# Altium footprint library Connectors.PcbLib: 27 footprints (part 1 of 2)
Each footprint in its own frame and in the unit in brackets; x right, y up, seen from the top. Pads: shape width x height; smd on the part's side, far side on the other; paste and mask are expansions set on the pad; w line width, h text height; cw(c..) or ccw(c..) is an arc to the next point about the centre after c.
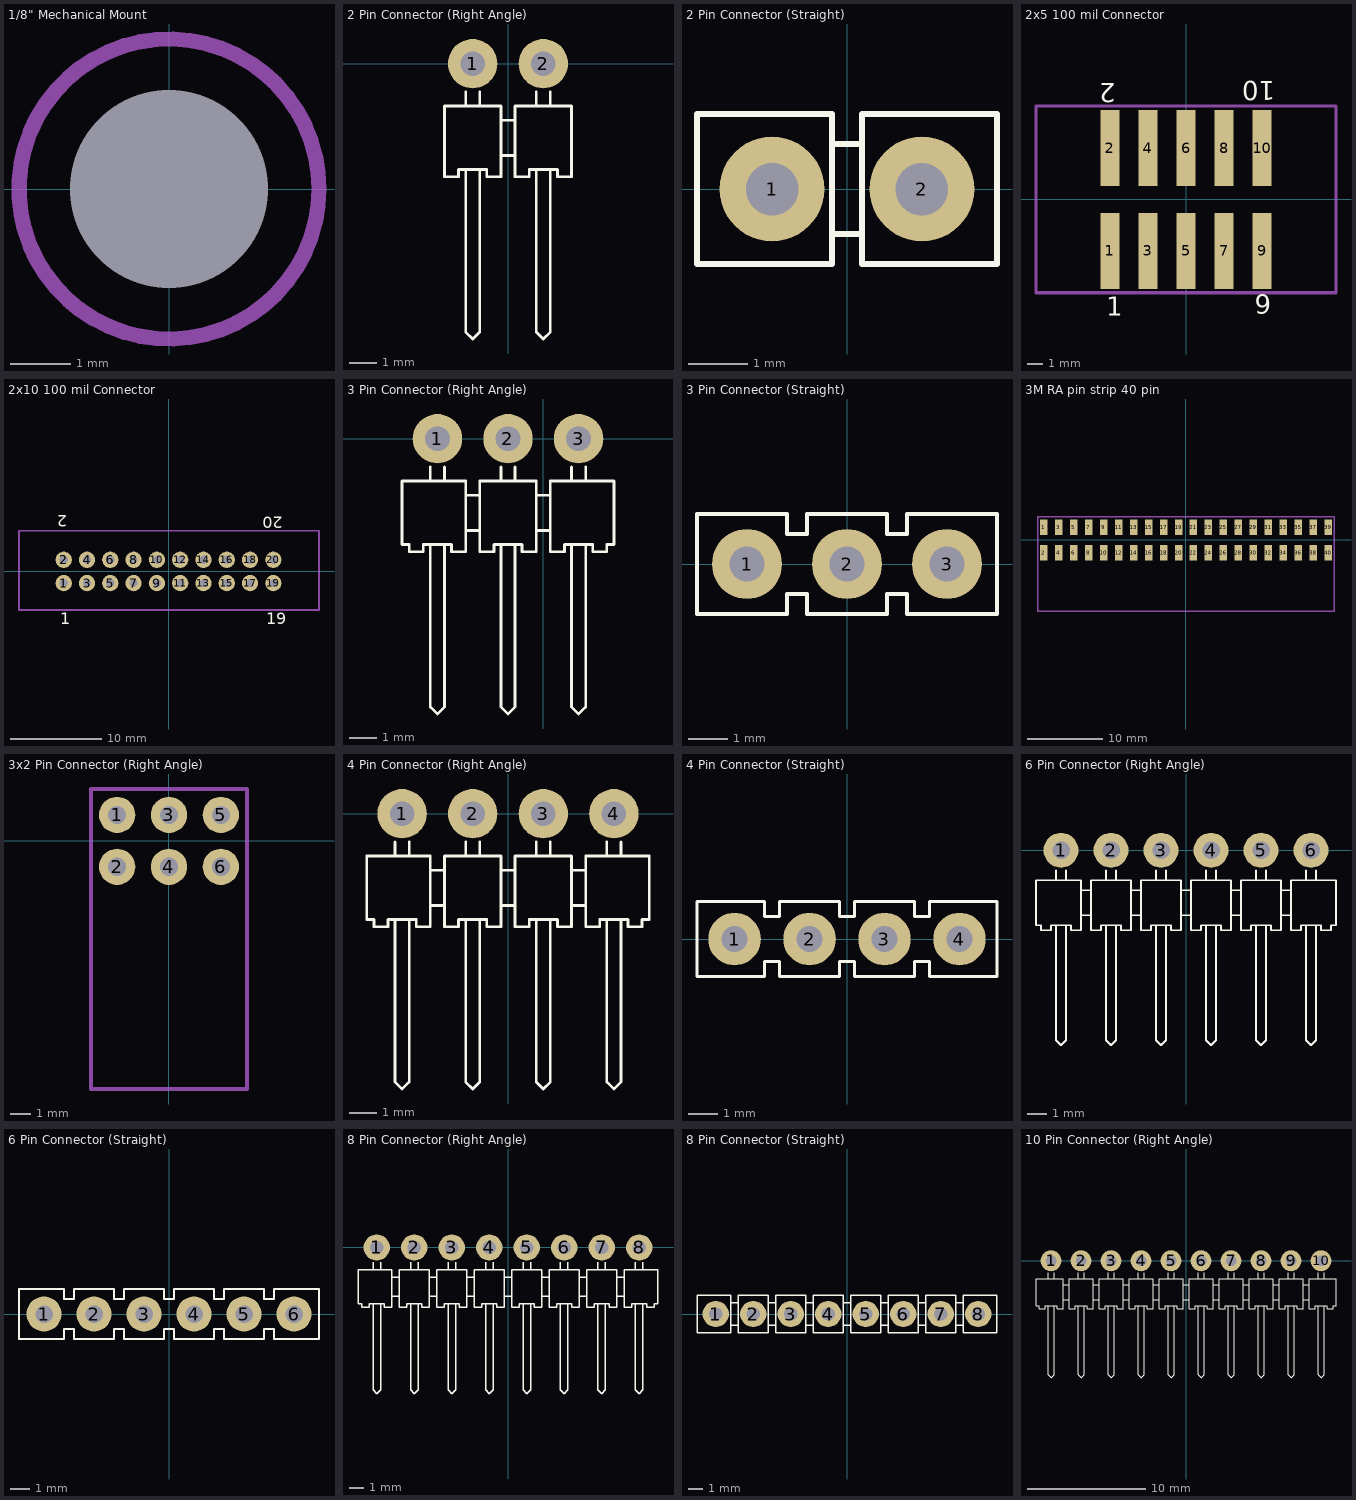
[diagram p0: the footprints below, top view; thin cyan lines are the x and y axes]

## 1/8" Mechanical Mount [mil] "1/8\" Hole for Mechanical Mount"
height 354.33
pads (1):
  round 0 hole 130 unplated mask+59.06: 0(0,0)
Mechanical 13:
  circle w10: c0,0 r98.43
3D body: height 236.22, standoff 0, extent -97.64,-98.22 98.44,98.24

## 2 Pin Connector (Right Angle) [mil] "2 Pin Connector with 0.1'' Pitch"
height 100
pads (2):
  round 70 hole 35: 1(-50,0) 2(50,0)
Top Overlay:
  lines w1.97: -60,-150 -40,-150 ; 40,-150 60,-150
  lines w3.94: -60,-150 -60,-380 -50,-390 -40,-380 -40,-150 ; -60,-60 -60,-40 ; -40,-60 -40,-40 ; -10,-130 10,-130 ; -10,-80 10,-80 ; 40,-150 40,-380 50,-390 60,-380 60,-150 ; 40,-60 40,-40 ; 60,-60 60,-40 ; -90,-160 -70,-160 -70,-150 -30,-150 -30,-160 -10,-160 -10,-60 -90,-60 -90,-160 ; 10,-160 30,-160 30,-150 70,-150 70,-160 90,-160 90,-60 10,-60 10,-160
3D body: height 100, standoff 0, extent 10.02,-159.98 89.98,-60.02
3D body: height 100, standoff 0, extent -89.98,-159.98 -10.02,-60.02
3D body: height 70, standoff 15, extent -9.98,-129.98 9.98,-80.02
3D body: height 75, standoff 50, extent 40,-390 60,10
3D body: height 75, standoff 50, extent -60,-390 -40,10
3D body: height 75, standoff 0, extent -60,-10 -40,10
3D body: height 75, standoff 0, extent 40,-10 60,10

## 2 Pin Connector (Straight) [mil] "2 Pin,  0.1\" pitch, Through Hole (Straight)"
height 330
pads (2):
  round 70 hole 35: 1(-50,0) 2(50,0)
Top Overlay:
  lines w3.94: -90,-50 -10,-50 ; -90,50 -10,50 ; -10,-30 10,-30 ; -10,30 10,30 ; 90,-50 10,-50 ; 90,50 10,50 ; -10,-50 -100,-50 -100,50 -10,50 ; -10,-50 -10,50 ; 10,-50 10,50 ; 10,-50 100,-50 100,50 10,50
3D body: height 100, standoff 0, extent -99.98,-49.98 -10.02,49.98
3D body: height 430, standoff -100, extent -60,-10 -40,10
3D body: height 70, standoff 0, extent -9.98,-29.98 9.98,29.98
3D body: height 430, standoff -100, extent 40,-10 60,10
3D body: height 100, standoff 0, extent 10.02,-49.98 99.98,49.98

## 2x5 100 mil Connector [mil] "10 Pin,  0.1\" pitch, Straight SMA"
height 0.39
pads (10):
  rect 50x200 smd: 1(-200,-135) 2(-200,135) 3(-100,-135) 4(-100,135) 5(0,-135) 6(0,135) 7(100,-135) 8(100,135) 9(200,-135) 10(200,135)
Top Overlay:
  text "10" at 235,310 h50
  text "2" at -185,305 h50
  text "9" at 180,-300 h50
  text "1" at -210,-305 h50
Mechanical 13:
  lines w8: -394,-245 -394,245 394,245 394,-245 -394,-245

## 2x10 100 mil Connector [mil] "20 Pin,  0.1\" pitch, Through Hole (Straight)"
height 0.39
pads (20):
  round 70 hole 35: 1(-450,-50) 2(-450,50) 3(-350,-50) 4(-350,50) 5(-250,-50) 6(-250,50) 7(-150,-50) 8(-150,50) 9(-50,-50) 10(-50,50) 11(50,-50) 12(50,50) 13(150,-50) 14(150,50) 15(250,-50) 16(250,50) 17(350,-50) 18(350,50) 19(450,-50) 20(450,50)
Top Overlay:
  text "1" at -463.87,-226.45 h50
  text "19" at 420,-227 h50
  text "2" at -434,241 h50
  text "20" at 490,235 h50
Mechanical 13:
  lines w8: -642,-165 646,-165 646,175 -642,175 -642,-165
3D body: height 380, standoff -110, extent -260,40 -240,60
3D body: height 380, standoff -110, extent -160,40 -140,60
3D body: height 380, standoff -110, extent 140,40 160,60
3D body: height 380, standoff -110, extent 240,40 260,60
3D body: height 380, standoff -110, extent 240,-60 260,-40
3D body: height 380, standoff -110, extent 140,-60 160,-40
3D body: height 380, standoff -110, extent -160,-60 -140,-40
3D body: height 380, standoff -110, extent -260,-60 -240,-40
3D body: height 395, standoff -107, extent -642,-165 646,175

## 3 Pin Connector (Right Angle) [mil] "3 Pin Connector with 0.1'' Pitch"
height 100
pads (3):
  round 70 hole 35: 1(-150,0) 2(-50,0) 3(50,0)
Top Overlay:
  lines w1.97: -160,-150 -140,-150 ; -60,-150 -40,-150 ; 40,-150 60,-150
  lines w3.94: -160,-150 -160,-380 -150,-390 -140,-380 -140,-150 ; -160,-60 -160,-40 ; -140,-60 -140,-40 ; -110,-130 -90,-130 ; -110,-80 -90,-80 ; -60,-150 -60,-380 -50,-390 -40,-380 -40,-150 ; -60,-60 -60,-40 ; -40,-60 -40,-40 ; -10,-130 10,-130 ; -10,-80 10,-80 ; 40,-150 40,-380 50,-390 60,-380 60,-150 ; 40,-60 40,-40 ; 60,-60 60,-40 ; -200,-150 -200,-60 -110,-60 -110,-160 -130,-160 -130,-150 -170,-150 -170,-160 -190,-160 -190,-150 -200,-150 ; -90,-160 -90,-60 -10,-60 -10,-160 -30,-160 -30,-150 -70,-150 -70,-160 -90,-160 ; 10,-160 10,-60 100,-60 100,-150 90,-150 90,-160 70,-160 70,-150 30,-150 30,-160 10,-160
3D body: height 75, standoff 0, extent 40,-10 60,10
3D body: height 75, standoff 0, extent -60,-10 -40,10
3D body: height 75, standoff 0, extent -160,-10 -140,10
3D body: height 75, standoff 50, extent -160,-390 -140,10
3D body: height 75, standoff 50, extent -60,-390 -40,10
3D body: height 75, standoff 50, extent 40,-390 60,10
3D body: height 70, standoff 15, extent -9.98,-129.98 9.98,-80.02
3D body: height 70, standoff 15, extent -109.98,-129.98 -90.02,-80.02
3D body: height 100, standoff 0, extent -199.98,-159.98 -110.02,-60.02
3D body: height 100, standoff 0, extent -89.98,-159.98 -10.02,-60.02
3D body: height 100, standoff 0, extent 10.02,-159.98 99.98,-60.02

## 3 Pin Connector (Straight) [mil] "3 Pin,  0.1\" pitch, Through Hole (Straight)"
height 330
pads (3):
  round 70 hole 35: 1(-100,0) 2(0,0) 3(100,0)
Top Overlay:
  lines w3.94: -140,-50 -60,-50 -150,-50 -150,50 -60,50 -140,50 ; -60,-30 -40,-30 ; -60,30 -40,30 ; -40,-50 40,-50 ; -40,50 40,50 ; 40,-30 60,-30 ; 40,30 60,30 ; 140,-50 60,-50 150,-50 150,50 60,50 140,50
  lines w4: -60,-50 -60,-30 ; -60,30 -60,50 ; -40,-50 -40,-30 ; -40,30 -40,50 ; 40,-50 40,-30 ; 40,30 40,50 ; 60,-50 60,-30 ; 60,30 60,50
3D body: height 430, standoff -100, extent 90,-10 110,10
3D body: height 100, standoff 0, extent 60.02,-49.98 149.98,49.98
3D body: height 100, standoff 0, extent -149.98,-49.98 -60.02,49.98
3D body: height 430, standoff -100, extent -110,-10 -90,10
3D body: height 430, standoff -100, extent -10,-10 10,10
3D body: height 70, standoff 0, extent 40.02,-29.98 59.98,29.98
3D body: height 70, standoff 0, extent -59.98,-29.98 -40.02,29.98
3D body: height 100, standoff 0, extent -39.98,-49.98 39.98,49.98

## 3M RA pin strip 40 pin [mm] "Breakaway header, SM 40 circuits"
height 5
pads (40):
  rect 1x2.03 smd: 1(-19,1.675) 2(-19,-1.725) 3(-17,1.675) 4(-17,-1.725) 5(-15,1.675) 6(-15,-1.725) 7(-13,1.675) 8(-13,-1.725) 9(-11,1.675) 10(-11,-1.725) 11(-9,1.675) 12(-9,-1.725) 13(-7,1.675) 14(-7,-1.725) 15(-5,1.675) 16(-5,-1.725) 17(-3,1.675) 18(-3,-1.725) 19(-1,1.675) 20(-1,-1.725) 21(1,1.675) 22(1,-1.725) 23(3,1.675) 24(3,-1.725) 25(5,1.675) 26(5,-1.725) 27(7,1.675) 28(7,-1.725) 29(9,1.675) 30(9,-1.725) 31(11,1.675) 32(11,-1.725) 33(13,1.675) 34(13,-1.725) 35(15,1.675) 36(15,-1.725) 37(17,1.675) 38(17,-1.725) 39(19,1.675) 40(19,-1.725)
Mechanical 13:
  lines w0.203: 7.112,-9.498 9.398,-9.498 ; 9.398,-9.498 -19.812,-9.498 -19.812,-2.54 -19.812,3.048 19.812,3.048 19.812,-3.048 19.812,-9.488 19.802,-9.498 9.398,-9.498
3D body: height 2.54, standoff 0, extent 18.3,-5.448 19.7,-2.848
3D body: height 1.91, standoff 1.27, extent 18.746,-9.448 19.254,-1.094
3D body: height 1.91, standoff 0, extent 18.746,-1.602 19.254,-1.094
3D body: height 2.54, standoff 0, extent 16.3,-5.448 17.7,-2.848
3D body: height 1.91, standoff 1.27, extent 16.746,-9.448 17.254,-1.094
3D body: height 1.91, standoff 0, extent 16.746,-1.602 17.254,-1.094
3D body: height 1.78, standoff 0.38, extent 17.712,-4.572 18.22,-3.302
3D body: height 2.54, standoff 0, extent 14.3,-5.448 15.7,-2.848
3D body: height 1.91, standoff 1.27, extent 14.746,-9.448 15.254,-1.094
3D body: height 1.91, standoff 0, extent 14.746,-1.602 15.254,-1.094
3D body: height 1.78, standoff 0.38, extent 15.712,-4.572 16.22,-3.302
3D body: height 2.54, standoff 0, extent 12.3,-5.448 13.7,-2.848
3D body: height 1.91, standoff 1.27, extent 12.746,-9.448 13.254,-1.094
3D body: height 1.91, standoff 0, extent 12.746,-1.602 13.254,-1.094
3D body: height 1.78, standoff 0.38, extent 13.712,-4.572 14.22,-3.302
3D body: height 2.54, standoff 0, extent 10.3,-5.448 11.7,-2.848
3D body: height 1.91, standoff 1.27, extent 10.746,-9.448 11.254,-1.094
3D body: height 1.91, standoff 0, extent 10.746,-1.602 11.254,-1.094
3D body: height 1.78, standoff 0.38, extent 11.712,-4.572 12.22,-3.302
3D body: height 2.54, standoff 0, extent 8.3,-5.448 9.7,-2.848
3D body: height 1.91, standoff 1.27, extent 8.746,-9.448 9.254,-1.094
3D body: height 1.91, standoff 0, extent 8.746,-1.602 9.254,-1.094
3D body: height 1.78, standoff 0.38, extent 9.712,-4.572 10.22,-3.302
3D body: height 2.54, standoff 0, extent 6.3,-5.448 7.7,-2.848
3D body: height 1.91, standoff 1.27, extent 6.746,-9.448 7.254,-1.094
3D body: height 1.91, standoff 0, extent 6.746,-1.602 7.254,-1.094
3D body: height 1.78, standoff 0.38, extent 7.712,-4.572 8.22,-3.302
3D body: height 2.54, standoff 0, extent 4.3,-5.448 5.7,-2.848
3D body: height 1.91, standoff 1.27, extent 4.746,-9.448 5.254,-1.094
3D body: height 1.91, standoff 0, extent 4.746,-1.602 5.254,-1.094
3D body: height 1.78, standoff 0.38, extent 5.712,-4.572 6.22,-3.302
3D body: height 2.54, standoff 0, extent 2.3,-5.448 3.7,-2.848
3D body: height 1.91, standoff 1.27, extent 2.746,-9.448 3.254,-1.094
3D body: height 1.91, standoff 0, extent 2.746,-1.602 3.254,-1.094
3D body: height 1.78, standoff 0.38, extent 3.712,-4.572 4.22,-3.302
3D body: height 2.54, standoff 0, extent 0.3,-5.448 1.7,-2.848
3D body: height 1.91, standoff 1.27, extent 0.746,-9.448 1.254,-1.094
3D body: height 1.91, standoff 0, extent 0.746,-1.602 1.254,-1.094
3D body: height 1.78, standoff 0.38, extent 1.712,-4.572 2.22,-3.302
3D body: height 2.54, standoff 0, extent -1.7,-5.448 -0.3,-2.848
3D body: height 1.91, standoff 1.27, extent -1.254,-9.448 -0.746,-1.094
3D body: height 1.91, standoff 0, extent -1.254,-1.602 -0.746,-1.094
3D body: height 1.78, standoff 0.38, extent -0.288,-4.572 0.22,-3.302
3D body: height 2.54, standoff 0, extent -3.7,-5.448 -2.3,-2.848
3D body: height 1.91, standoff 1.27, extent -3.254,-9.448 -2.746,-1.094
3D body: height 1.91, standoff 0, extent -3.254,-1.602 -2.746,-1.094
3D body: height 1.78, standoff 0.38, extent -2.288,-4.572 -1.78,-3.302
3D body: height 2.54, standoff 0, extent -5.7,-5.448 -4.3,-2.848
3D body: height 1.91, standoff 1.27, extent -5.254,-9.448 -4.746,-1.094
3D body: height 1.91, standoff 0, extent -5.254,-1.602 -4.746,-1.094
3D body: height 1.78, standoff 0.38, extent -4.288,-4.572 -3.78,-3.302
3D body: height 2.54, standoff 0, extent -7.7,-5.448 -6.3,-2.848
3D body: height 1.91, standoff 1.27, extent -7.254,-9.448 -6.746,-1.094
3D body: height 1.91, standoff 0, extent -7.254,-1.602 -6.746,-1.094
3D body: height 1.78, standoff 0.38, extent -6.288,-4.572 -5.78,-3.302
3D body: height 2.54, standoff 0, extent -9.7,-5.448 -8.3,-2.848
3D body: height 1.91, standoff 1.27, extent -9.254,-9.448 -8.746,-1.094
3D body: height 1.91, standoff 0, extent -9.254,-1.602 -8.746,-1.094
3D body: height 1.78, standoff 0.38, extent -8.288,-4.572 -7.78,-3.302
3D body: height 2.54, standoff 0, extent -11.7,-5.448 -10.3,-2.848
3D body: height 1.91, standoff 1.27, extent -11.254,-9.448 -10.746,-1.094
3D body: height 1.91, standoff 0, extent -11.254,-1.602 -10.746,-1.094
3D body: height 1.78, standoff 0.38, extent -10.288,-4.572 -9.78,-3.302
3D body: height 2.54, standoff 0, extent -13.7,-5.448 -12.3,-2.848
3D body: height 1.91, standoff 1.27, extent -13.254,-9.448 -12.746,-1.094
3D body: height 1.91, standoff 0, extent -13.254,-1.602 -12.746,-1.094
3D body: height 1.78, standoff 0.38, extent -12.288,-4.572 -11.78,-3.302
3D body: height 2.54, standoff 0, extent -15.7,-5.448 -14.3,-2.848
3D body: height 1.91, standoff 1.27, extent -15.254,-9.448 -14.746,-1.094
3D body: height 1.91, standoff 0, extent -15.254,-1.602 -14.746,-1.094
3D body: height 1.78, standoff 0.38, extent -14.288,-4.572 -13.78,-3.302
3D body: height 2.54, standoff 0, extent -17.7,-5.448 -16.3,-2.848
3D body: height 1.91, standoff 1.27, extent -17.254,-9.448 -16.746,-1.094
3D body: height 1.91, standoff 0, extent -17.254,-1.602 -16.746,-1.094
3D body: height 1.78, standoff 0.38, extent -16.288,-4.572 -15.78,-3.302
3D body: height 2.54, standoff 0, extent -19.7,-5.448 -18.3,-2.848
3D body: height 1.91, standoff 1.27, extent -19.254,-9.448 -18.746,-1.094
3D body: height 1.91, standoff 0, extent -17.254,-1.602 -16.746,-1.094
3D body: height 1.78, standoff 0.38, extent -18.288,-4.572 -17.78,-3.302
3D body: height 1.91, standoff 0, extent -19.254,-1.602 -18.746,-1.094
3D body: height 4.32, standoff 2.92, extent -18.288,-4.505 -17.78,-3.235
3D body: height 5.08, standoff 2.54, extent -19.7,-5.381 -18.3,-2.781
3D body: height 4.44, standoff 0, extent -19.254,0.745 -18.746,1.253
3D body: height 4.44, standoff 3.81, extent -19.254,-9.381 -18.746,1.253
3D body: height 4.32, standoff 2.92, extent -16.288,-4.505 -15.78,-3.235
3D body: height 4.44, standoff 0, extent -17.254,0.745 -16.746,1.253
3D body: height 4.44, standoff 3.81, extent -17.254,-9.381 -16.746,1.253
3D body: height 5.08, standoff 2.54, extent -17.7,-5.381 -16.3,-2.781
3D body: height 4.32, standoff 2.92, extent -16.288,-4.505 -15.78,-3.235
3D body: height 4.32, standoff 2.92, extent -14.288,-4.505 -13.78,-3.235
3D body: height 4.44, standoff 0, extent -15.254,0.745 -14.746,1.253
3D body: height 4.44, standoff 3.81, extent -15.254,-9.381 -14.746,1.253
3D body: height 5.08, standoff 2.54, extent -15.7,-5.381 -14.3,-2.781
3D body: height 4.32, standoff 2.92, extent -14.288,-4.505 -13.78,-3.235
3D body: height 4.32, standoff 2.92, extent -12.288,-4.505 -11.78,-3.235
3D body: height 4.44, standoff 0, extent -13.254,0.745 -12.746,1.253
3D body: height 4.44, standoff 3.81, extent -13.254,-9.381 -12.746,1.253
3D body: height 5.08, standoff 2.54, extent -13.7,-5.381 -12.3,-2.781
3D body: height 4.32, standoff 2.92, extent -12.288,-4.505 -11.78,-3.235
3D body: height 4.32, standoff 2.92, extent -10.288,-4.505 -9.78,-3.235
3D body: height 4.44, standoff 0, extent -11.254,0.745 -10.746,1.253
3D body: height 4.44, standoff 3.81, extent -11.254,-9.381 -10.746,1.253
3D body: height 5.08, standoff 2.54, extent -11.7,-5.381 -10.3,-2.781
3D body: height 4.32, standoff 2.92, extent -10.288,-4.505 -9.78,-3.235
3D body: height 4.32, standoff 2.92, extent -8.288,-4.505 -7.78,-3.235
3D body: height 4.44, standoff 0, extent -9.254,0.745 -8.746,1.253
3D body: height 4.44, standoff 3.81, extent -9.254,-9.381 -8.746,1.253
3D body: height 5.08, standoff 2.54, extent -9.7,-5.381 -8.3,-2.781
3D body: height 4.32, standoff 2.92, extent -8.288,-4.505 -7.78,-3.235
3D body: height 4.32, standoff 2.92, extent -6.288,-4.505 -5.78,-3.235
3D body: height 4.44, standoff 0, extent -7.254,0.745 -6.746,1.253
3D body: height 4.44, standoff 3.81, extent -7.254,-9.381 -6.746,1.253
3D body: height 5.08, standoff 2.54, extent -7.7,-5.381 -6.3,-2.781
3D body: height 4.32, standoff 2.92, extent -6.288,-4.505 -5.78,-3.235
3D body: height 4.32, standoff 2.92, extent -4.288,-4.505 -3.78,-3.235
3D body: height 4.44, standoff 0, extent -5.254,0.745 -4.746,1.253
3D body: height 4.44, standoff 3.81, extent -5.254,-9.381 -4.746,1.253
3D body: height 5.08, standoff 2.54, extent -5.7,-5.381 -4.3,-2.781
3D body: height 4.32, standoff 2.92, extent -4.288,-4.505 -3.78,-3.235
3D body: height 4.32, standoff 2.92, extent -2.288,-4.505 -1.78,-3.235
3D body: height 4.44, standoff 0, extent -3.254,0.745 -2.746,1.253
3D body: height 4.44, standoff 3.81, extent -3.254,-9.381 -2.746,1.253
3D body: height 5.08, standoff 2.54, extent -3.7,-5.381 -2.3,-2.781
3D body: height 4.32, standoff 2.92, extent -2.288,-4.505 -1.78,-3.235
3D body: height 4.32, standoff 2.92, extent -0.288,-4.505 0.22,-3.235
3D body: height 4.44, standoff 0, extent -1.254,0.745 -0.746,1.253
3D body: height 4.44, standoff 3.81, extent -1.254,-9.381 -0.746,1.253
3D body: height 5.08, standoff 2.54, extent -1.7,-5.381 -0.3,-2.781
3D body: height 4.32, standoff 2.92, extent -0.288,-4.505 0.22,-3.235
3D body: height 4.32, standoff 2.92, extent 1.712,-4.505 2.22,-3.235
3D body: height 4.44, standoff 0, extent 0.746,0.745 1.254,1.253
3D body: height 4.44, standoff 3.81, extent 0.746,-9.381 1.254,1.253
3D body: height 5.08, standoff 2.54, extent 0.3,-5.381 1.7,-2.781
3D body: height 4.32, standoff 2.92, extent 1.712,-4.505 2.22,-3.235
3D body: height 4.32, standoff 2.92, extent 3.712,-4.505 4.22,-3.235
3D body: height 4.44, standoff 0, extent 2.746,0.745 3.254,1.253
3D body: height 4.44, standoff 3.81, extent 2.746,-9.381 3.254,1.253
3D body: height 5.08, standoff 2.54, extent 2.3,-5.381 3.7,-2.781
3D body: height 4.32, standoff 2.92, extent 3.712,-4.505 4.22,-3.235
3D body: height 4.32, standoff 2.92, extent 5.712,-4.505 6.22,-3.235
3D body: height 4.44, standoff 0, extent 4.746,0.745 5.254,1.253
3D body: height 4.44, standoff 3.81, extent 4.746,-9.381 5.254,1.253
3D body: height 5.08, standoff 2.54, extent 4.3,-5.381 5.7,-2.781
3D body: height 4.32, standoff 2.92, extent 5.712,-4.505 6.22,-3.235
3D body: height 4.32, standoff 2.92, extent 7.712,-4.505 8.22,-3.235
3D body: height 4.44, standoff 0, extent 6.746,0.745 7.254,1.253
3D body: height 4.44, standoff 3.81, extent 6.746,-9.381 7.254,1.253
3D body: height 5.08, standoff 2.54, extent 6.3,-5.381 7.7,-2.781
3D body: height 4.32, standoff 2.92, extent 7.712,-4.505 8.22,-3.235
3D body: height 4.32, standoff 2.92, extent 9.712,-4.505 10.22,-3.235
3D body: height 4.44, standoff 0, extent 8.746,0.745 9.254,1.253
3D body: height 4.44, standoff 3.81, extent 8.746,-9.381 9.254,1.253
3D body: height 5.08, standoff 2.54, extent 8.3,-5.381 9.7,-2.781
3D body: height 4.32, standoff 2.92, extent 9.712,-4.505 10.22,-3.235
3D body: height 4.32, standoff 2.92, extent 11.712,-4.505 12.22,-3.235
3D body: height 4.44, standoff 0, extent 10.746,0.745 11.254,1.253
3D body: height 4.44, standoff 3.81, extent 10.746,-9.381 11.254,1.253
3D body: height 5.08, standoff 2.54, extent 10.3,-5.381 11.7,-2.781
3D body: height 4.32, standoff 2.92, extent 11.712,-4.505 12.22,-3.235
3D body: height 4.32, standoff 2.92, extent 13.712,-4.505 14.22,-3.235
3D body: height 4.44, standoff 0, extent 12.746,0.745 13.254,1.253
3D body: height 4.44, standoff 3.81, extent 12.746,-9.381 13.254,1.253
3D body: height 5.08, standoff 2.54, extent 12.3,-5.381 13.7,-2.781
3D body: height 4.32, standoff 2.92, extent 13.712,-4.505 14.22,-3.235
3D body: height 4.32, standoff 2.92, extent 15.712,-4.505 16.22,-3.235
3D body: height 4.44, standoff 0, extent 14.746,0.745 15.254,1.253
3D body: height 4.44, standoff 3.81, extent 14.746,-9.381 15.254,1.253
3D body: height 5.08, standoff 2.54, extent 14.3,-5.381 15.7,-2.781
3D body: height 4.32, standoff 2.92, extent 15.712,-4.505 16.22,-3.235
3D body: height 4.32, standoff 2.92, extent 17.712,-4.505 18.22,-3.235
3D body: height 4.44, standoff 0, extent 16.746,0.745 17.254,1.253
3D body: height 4.44, standoff 3.81, extent 16.746,-9.381 17.254,1.253
3D body: height 5.08, standoff 2.54, extent 16.3,-5.381 17.7,-2.781
3D body: height 4.32, standoff 2.92, extent 17.712,-4.505 18.22,-3.235
3D body: height 4.44, standoff 0, extent 18.746,0.745 19.254,1.253
3D body: height 4.44, standoff 3.81, extent 18.746,-9.381 19.254,1.253
3D body: height 5.08, standoff 2.54, extent 18.3,-5.381 19.7,-2.781

## 3x2 Pin Connector (Right Angle) [mil] "6 Pin Connector with 0.1'' Pitch"
height 196.85
pads (6):
  round 70 hole 35: 1(-100,50) 2(-100,-50) 3(0,50) 4(0,-50) 5(100,50) 6(100,-50)
Mechanical 13:
  lines w7.87: 150.01,50 150.01,100 112.42,100 -150,100 -150,-478.45 ; 150.01,62.41 150.01,-478.46 -149.99,-478.46 ; -150,-478.45 -149.99,-478.46
3D body: height 221.65, standoff -125.98, extent -149.99,-478.46 150.01,62.41

## 4 Pin Connector (Right Angle) [mil] "4 Pin Connector with 0.1'' Pitch"
height 100
pads (4):
  round 70 hole 35: 1(-150,0) 2(-50,0) 3(50,0) 4(150,0)
Top Overlay:
  lines w1.97: -160,-150 -140,-150 ; -60,-150 -40,-150 ; 40,-150 60,-150 ; 140,-150 160,-150
  lines w3.94: -160,-150 -160,-380 -150,-390 -140,-380 -140,-150 ; -160,-60 -160,-40 ; -140,-60 -140,-40 ; -110,-130 -90,-130 ; -110,-80 -90,-80 ; -60,-150 -60,-380 -50,-390 -40,-380 -40,-150 ; -60,-60 -60,-40 ; -40,-60 -40,-40 ; -10,-130 10,-130 ; -10,-80 10,-80 ; 40,-150 40,-380 50,-390 60,-380 60,-150 ; 40,-60 40,-40 ; 60,-60 60,-40 ; 90,-130 110,-130 ; 90,-80 110,-80 ; 140,-150 140,-380 150,-390 160,-380 160,-150 ; 140,-60 140,-40 ; 160,-60 160,-40 ; -200,-150 -200,-60 -110,-60 -110,-160 -130,-160 -130,-150 -170,-150 -170,-160 -190,-160 -190,-150 -200,-150 ; -90,-160 -90,-60 -10,-60 -10,-160 -30,-160 -30,-150 -70,-150 -70,-160 -90,-160 ; 10,-160 10,-60 90,-60 90,-160 70,-160 70,-150 30,-150 30,-160 10,-160 ; 110,-160 110,-60 200,-60 200,-150 190,-150 190,-160 170,-160 170,-150 130,-150 130,-160 110,-160
3D body: height 75, standoff 0, extent 140,-10 160,10
3D body: height 75, standoff 0, extent 40,-10 60,10
3D body: height 75, standoff 0, extent -60,-10 -40,10
3D body: height 75, standoff 0, extent -160,-10 -140,10
3D body: height 75, standoff 50, extent -160,-390 -140,10
3D body: height 75, standoff 50, extent -60,-390 -40,10
3D body: height 75, standoff 50, extent 40,-390 60,10
3D body: height 75, standoff 50, extent 140,-390 160,10
3D body: height 70, standoff 15, extent 90.02,-129.98 109.98,-80.02
3D body: height 70, standoff 15, extent -9.98,-129.98 9.98,-80.02
3D body: height 70, standoff 15, extent -109.98,-129.98 -90.02,-80.02
3D body: height 100, standoff 0, extent -199.98,-159.98 -110.02,-60.02
3D body: height 100, standoff 0, extent -89.98,-159.98 -10.02,-60.02
3D body: height 100, standoff 0, extent 10.02,-159.98 89.98,-60.02
3D body: height 100, standoff 0, extent 110.02,-159.98 199.98,-60.02

## 4 Pin Connector (Straight) [mil] "4 Pin,  0.1\" pitch, Through Hole (Straight)"
height 330
pads (4):
  round 70 hole 35: 1(-150,0) 2(-50,0) 3(50,0) 4(150,0)
Top Overlay:
  lines w3.94: -190,-50 -110,-50 -200,-50 -200,50 -110,50 -190,50 ; -110,-30 -90,-30 ; -110,30 -90,30 ; -90,-50 -10,-50 ; -90,50 -10,50 ; -10,-30 10,-30 ; -10,30 10,30 ; 10,50 90,50 ; 90,-30 110,-30 ; 90,30 110,30 ; 190,-50 110,-50 200,-50 200,50 110,50 190,50
  lines w4: -110,-50 -110,-30 ; -110,30 -110,50 ; -90,-50 -90,-30 ; -90,30 -90,50 ; -10,-50 -10,-30 ; -10,30 -10,50 ; 10,-30 10,-50 90,-50 90,-30 ; 10,30 10,50 ; 90,30 90,50 ; 110,-50 110,-30 ; 110,30 110,50
3D body: height 100, standoff 0, extent -89.98,-49.98 -10.02,49.98
3D body: height 100, standoff 0, extent 10.04,-49.96 90,50
3D body: height 70, standoff 0, extent -109.98,-29.98 -90.02,29.98
3D body: height 70, standoff 0, extent -9.98,-29.98 9.98,29.98
3D body: height 70, standoff 0, extent 90.02,-29.98 109.98,29.98
3D body: height 430, standoff -100, extent 140,-10 160,10
3D body: height 430, standoff -100, extent 40,-10 60,10
3D body: height 430, standoff -100, extent -60,-10 -40,10
3D body: height 430, standoff -100, extent -160,-10 -140,10
3D body: height 100, standoff 0, extent 110.02,-49.98 199.98,49.98
3D body: height 100, standoff 0, extent -199.98,-49.98 -110.02,49.98

## 6 Pin Connector (Right Angle) [mil] "6 Pin Connector with 0.1'' Pitch"
height 100
pads (6):
  round 70 hole 35: 1(-250,0) 2(-150,0) 3(-50,0) 4(50,0) 5(150,0) 6(250,0)
Top Overlay:
  lines w1.97: -260,-150 -240,-150 ; -160,-150 -140,-150 ; -60,-150 -40,-150 ; 40,-150 60,-150 ; 140,-150 160,-150 ; 240,-150 260,-150
  lines w3.94: -260,-150 -260,-380 -250,-390 -240,-380 -240,-150 ; -260,-60 -260,-40 ; -240,-60 -240,-40 ; -210,-130 -190,-130 ; -210,-80 -190,-80 ; -160,-150 -160,-380 -150,-390 -140,-380 -140,-150 ; -160,-60 -160,-40 ; -140,-60 -140,-40 ; -110,-130 -90,-130 ; -110,-80 -90,-80 ; -60,-150 -60,-380 -50,-390 -40,-380 -40,-150 ; -60,-60 -60,-40 ; -40,-60 -40,-40 ; -10,-130 10,-130 ; -10,-80 10,-80 ; 40,-150 40,-380 50,-390 60,-380 60,-150 ; 40,-60 40,-40 ; 60,-60 60,-40 ; 90,-130 110,-130 ; 90,-80 110,-80 ; 140,-150 140,-380 150,-390 160,-380 160,-150 ; 140,-60 140,-40 ; 160,-60 160,-40 ; 190,-130 210,-130 ; 190,-80 210,-80 ; 240,-150 240,-380 250,-390 260,-380 260,-150 ; 240,-60 240,-40 ; 260,-60 260,-40 ; -300,-150 -300,-60 -210,-60 -210,-160 -230,-160 -230,-150 -270,-150 -270,-160 -290,-160 -290,-150 -300,-150 ; -190,-160 -170,-160 -170,-150 -130,-150 -130,-160 -110,-160 -110,-60 -190,-60 -190,-160 ; -90,-160 -90,-60 -10,-60 -10,-160 -30,-160 -30,-150 -70,-150 -70,-160 -90,-160 ; 10,-160 10,-60 90,-60 90,-160 70,-160 70,-150 30,-150 30,-160 10,-160 ; 110,-160 130,-160 130,-150 170,-150 170,-160 190,-160 190,-60 110,-60 110,-160 ; 210,-160 210,-60 300,-60 300,-150 290,-150 290,-160 270,-160 270,-150 230,-150 230,-160 210,-160
3D body: height 100, standoff 0, extent 110.02,-159.98 189.98,-60.02
3D body: height 70, standoff 15, extent 190.02,-129.98 209.98,-80.02
3D body: height 75, standoff 50, extent 140,-390 160,10
3D body: height 75, standoff 0, extent 140,-10 160,10
3D body: height 100, standoff 0, extent -189.98,-159.98 -110.02,-60.02
3D body: height 75, standoff 50, extent -160,-390 -140,10
3D body: height 75, standoff 0, extent -160,-10 -140,10
3D body: height 70, standoff 15, extent -209.98,-129.98 -190.02,-80.02
3D body: height 75, standoff 0, extent 240,-10 260,10
3D body: height 75, standoff 0, extent 40,-10 60,10
3D body: height 75, standoff 0, extent -60,-10 -40,10
3D body: height 75, standoff 0, extent -260,-10 -240,10
3D body: height 75, standoff 50, extent -260,-390 -240,10
3D body: height 75, standoff 50, extent -60,-390 -40,10
3D body: height 75, standoff 50, extent 40,-390 60,10
3D body: height 75, standoff 50, extent 240,-390 260,10
3D body: height 70, standoff 15, extent 90.02,-129.98 109.98,-80.02
3D body: height 70, standoff 15, extent -9.98,-129.98 9.98,-80.02
3D body: height 70, standoff 15, extent -109.98,-129.98 -90.02,-80.02
3D body: height 100, standoff 0, extent -299.98,-159.98 -210.02,-60.02
3D body: height 100, standoff 0, extent -89.98,-159.98 -10.02,-60.02
3D body: height 100, standoff 0, extent 10.02,-159.98 89.98,-60.02
3D body: height 100, standoff 0, extent 210.02,-159.98 299.98,-60.02

## 6 Pin Connector (Straight) [mil] "6 Pin,  0.1\" pitch, Through Hole (Straight)"
height 330
pads (6):
  round 70 hole 35: 1(-250,0) 2(-150,0) 3(-50,0) 4(50,0) 5(150,0) 6(250,0)
Top Overlay:
  lines w3.94: -290,-50 -210,-50 -300,-50 -300,50 -210,50 -290,50 ; -210,-30 -190,-30 ; -210,30 -190,30 ; -190,-50 -110,-50 ; -190,50 -110,50 ; -110,-30 -90,-30 ; -110,30 -90,30 ; -90,-50 -10,-50 ; -90,50 -10,50 ; -10,-30 10,-30 ; -10,30 10,30 ; 10,-50 90,-50 ; 10,50 90,50 ; 90,-30 110,-30 ; 90,30 110,30 ; 110,-50 190,-50 ; 110,50 190,50 ; 190,-30 210,-30 ; 190,30 210,30 ; 290,-50 210,-50 300,-50 300,50 210,50 290,50
  lines w4: -210,-50 -210,-30 ; -210,30 -210,50 ; -190,-50 -190,-30 ; -190,30 -190,50 ; -110,-50 -110,-30 ; -110,30 -110,50 ; -90,-50 -90,-30 ; -90,30 -90,50 ; -10,-50 -10,-30 ; -10,30 -10,50 ; 10,-50 10,-30 ; 10,30 10,50 ; 90,-50 90,-30 ; 90,30 90,50 ; 110,-50 110,-30 ; 110,30 110,50 ; 190,-50 190,-30 ; 190,30 190,50 ; 210,-50 210,-30 ; 210,30 210,50
3D body: height 100, standoff 0, extent -299.98,-49.98 -210.02,49.98
3D body: height 100, standoff 0, extent -89.98,-49.98 -10.02,49.98
3D body: height 100, standoff 0, extent 10.04,-49.96 90,50
3D body: height 100, standoff 0, extent 110.02,-49.98 189.98,49.98
3D body: height 70, standoff 0, extent -109.98,-29.98 -90.02,29.98
3D body: height 70, standoff 0, extent -9.98,-29.98 9.98,29.98
3D body: height 70, standoff 0, extent 90.02,-29.98 109.98,29.98
3D body: height 70, standoff 0, extent 190.02,-29.98 209.98,29.98
3D body: height 100, standoff 0, extent 210.02,-49.98 299.98,49.98
3D body: height 100, standoff 0, extent -189.98,-49.98 -110.02,49.98
3D body: height 70, standoff 0, extent -209.98,-29.98 -190.02,29.98
3D body: height 430, standoff -100, extent 240,-10 260,10
3D body: height 430, standoff -100, extent 140,-10 160,10
3D body: height 430, standoff -100, extent 40,-10 60,10
3D body: height 430, standoff -100, extent -60,-10 -40,10
3D body: height 430, standoff -100, extent -160,-10 -140,10
3D body: height 430, standoff -100, extent -260,-10 -240,10

## 8 Pin Connector (Right Angle) [mil] "8 Pin, 0.1\" pitch, 90' angle, Through-hole"
height 100
pads (8):
  round 70 hole 35: 1(-350,0) 2(-250,0) 3(-150,0) 4(-50,0) 5(50,0) 6(150,0) 7(250,0) 8(350,0)
Top Overlay:
  lines w1.97: -360,-150 -340,-150 ; -260,-150 -240,-150 ; -160,-150 -140,-150 ; -60,-150 -40,-150 ; 40,-150 60,-150 ; 140,-150 160,-150 ; 240,-150 260,-150 ; 340,-150 360,-150
  lines w3.94: -360,-150 -360,-380 -350,-390 -340,-380 -340,-150 ; -360,-60 -360,-40 ; -340,-60 -340,-40 ; -310,-130 -290,-130 ; -310,-80 -290,-80 ; -260,-150 -260,-380 -250,-390 -240,-380 -240,-150 ; -260,-60 -260,-40 ; -240,-60 -240,-40 ; -210,-130 -190,-130 ; -210,-80 -190,-80 ; -160,-150 -160,-380 -150,-390 -140,-380 -140,-150 ; -160,-60 -160,-40 ; -140,-60 -140,-40 ; -110,-130 -90,-130 ; -110,-80 -90,-80 ; -60,-150 -60,-380 -50,-390 -40,-380 -40,-150 ; -60,-60 -60,-40 ; -40,-60 -40,-40 ; -10,-130 10,-130 ; -10,-80 10,-80 ; 40,-150 40,-380 50,-390 60,-380 60,-150 ; 40,-60 40,-40 ; 60,-60 60,-40 ; 90,-130 110,-130 ; 90,-80 110,-80 ; 140,-150 140,-380 150,-390 160,-380 160,-150 ; 140,-60 140,-40 ; 160,-60 160,-40 ; 190,-130 210,-130 ; 190,-80 210,-80 ; 240,-150 240,-380 250,-390 260,-380 260,-150 ; 240,-60 240,-40 ; 260,-60 260,-40 ; 290,-130 310,-130 ; 290,-80 310,-80 ; 340,-150 340,-380 350,-390 360,-380 360,-150 ; 340,-60 340,-40 ; 360,-60 360,-40 ; -400,-150 -400,-60 -310,-60 -310,-160 -330,-160 -330,-150 -370,-150 -370,-160 -390,-160 -390,-150 -400,-150 ; -290,-160 -290,-60 -210,-60 -210,-160 -230,-160 -230,-150 -270,-150 -270,-160 -290,-160 ; -190,-160 -190,-60 -110,-60 -110,-160 -130,-160 -130,-150 -170,-150 -170,-160 -190,-160 ; -90,-160 -70,-160 -70,-150 -30,-150 -30,-160 -10,-160 -10,-60 -90,-60 -90,-160 ; 10,-160 30,-160 30,-150 70,-150 70,-160 90,-160 90,-60 10,-60 10,-160 ; 110,-160 130,-160 130,-150 170,-150 170,-160 190,-160 190,-60 110,-60 110,-160 ; 210,-160 230,-160 230,-150 270,-150 270,-160 290,-160 290,-60 210,-60 210,-160 ; 310,-160 310,-60 400,-60 400,-150 390,-150 390,-160 370,-160 370,-150 330,-150 330,-160 310,-160
3D body: height 75, standoff 0, extent 340,-10 360,10
3D body: height 75, standoff 0, extent -160,-10 -140,10
3D body: height 75, standoff 0, extent -260,-10 -240,10
3D body: height 75, standoff 0, extent -360,-10 -340,10
3D body: height 75, standoff 50, extent -360,-390 -340,10
3D body: height 75, standoff 50, extent -260,-390 -240,10
3D body: height 75, standoff 50, extent -160,-390 -140,10
3D body: height 75, standoff 50, extent 340,-390 360,10
3D body: height 70, standoff 15, extent -109.98,-129.98 -90.02,-80.02
3D body: height 70, standoff 15, extent -209.98,-129.98 -190.02,-80.02
3D body: height 70, standoff 15, extent -309.98,-129.98 -290.02,-80.02
3D body: height 100, standoff 0, extent -399.98,-159.98 -310.02,-60.02
3D body: height 100, standoff 0, extent -289.98,-159.98 -210.02,-60.02
3D body: height 100, standoff 0, extent -189.98,-159.98 -110.02,-60.02
3D body: height 100, standoff 0, extent 310.02,-159.98 399.98,-60.02
3D body: height 100, standoff 0, extent 10.02,-159.98 89.98,-60.02
3D body: height 100, standoff 0, extent -89.98,-159.98 -10.02,-60.02
3D body: height 70, standoff 15, extent -9.98,-129.98 9.98,-80.02
3D body: height 70, standoff 15, extent 90.02,-129.98 109.98,-80.02
3D body: height 75, standoff 50, extent 40,-390 60,10
3D body: height 75, standoff 50, extent -60,-390 -40,10
3D body: height 75, standoff 0, extent -60,-10 -40,10
3D body: height 75, standoff 0, extent 40,-10 60,10
3D body: height 100, standoff 0, extent 210.02,-159.98 289.98,-60.02
3D body: height 100, standoff 0, extent 110.02,-159.98 189.98,-60.02
3D body: height 70, standoff 15, extent 190.02,-129.98 209.98,-80.02
3D body: height 70, standoff 15, extent 290.02,-129.98 309.98,-80.02
3D body: height 75, standoff 50, extent 240,-390 260,10
3D body: height 75, standoff 50, extent 140,-390 160,10
3D body: height 75, standoff 0, extent 140,-10 160,10
3D body: height 75, standoff 0, extent 240,-10 260,10

## 8 Pin Connector (Straight) [mil] "8 Pin,  0.1\" pitch, Through Hole (Straight)"
height 330
pads (8):
  round 70 hole 35: 1(-350,0) 2(-250,0) 3(-150,0) 4(-50,0) 5(50,0) 6(150,0) 7(250,0) 8(350,0)
Top Overlay:
  lines w3.94: -390,-50 -310,-50 ; -390,50 -310,50 ; -310,-30 -290,-30 ; -310,30 -290,30 ; -210,-30 -190,-30 ; -210,30 -190,30 ; -110,-30 -90,-30 ; -110,30 -90,30 ; -10,-30 10,-30 ; -10,30 10,30 ; 90,-30 110,-30 ; 90,30 110,30 ; 190,-30 210,-30 ; 190,30 210,30 ; 290,-30 310,-30 ; 290,30 310,30 ; 390,-50 310,-50 ; 390,50 310,50 ; -310,-50 -310,50 ; -310,-50 -310,50 ; -310,-50 -400,-50 -400,50 -310,50 ; 310,-50 310,50 ; 310,-50 310,50 ; 310,-50 400,-50 400,50 310,50 ; -290,-50 -290,50 -210,50 -210,-50 -290,-50 ; -190,-50 -190,50 -110,50 -110,-50 -190,-50 ; -90,-50 -90,50 -10,50 -10,-50 -90,-50 ; 10,-50 90,-50 90,50 10,50 10,-50 ; 110,-50 110,50 190,50 190,-50 110,-50 ; 210,-50 210,50 290,50 290,-50 210,-50
3D body: height 430, standoff -100, extent 340,-10 360,10
3D body: height 430, standoff -100, extent 240,-10 260,10
3D body: height 430, standoff -100, extent 140,-10 160,10
3D body: height 430, standoff -100, extent 40,-10 60,10
3D body: height 430, standoff -100, extent -60,-10 -40,10
3D body: height 430, standoff -100, extent -160,-10 -140,10
3D body: height 430, standoff -100, extent -260,-10 -240,10
3D body: height 430, standoff -100, extent -360,-10 -340,10
3D body: height 70, standoff 0, extent 290.02,-29.98 309.98,29.98
3D body: height 70, standoff 0, extent 190.02,-29.98 209.98,29.98
3D body: height 70, standoff 0, extent 90.02,-29.98 109.98,29.98
3D body: height 70, standoff 0, extent -9.98,-29.98 9.98,29.98
3D body: height 70, standoff 0, extent -109.98,-29.98 -90.02,29.98
3D body: height 70, standoff 0, extent -209.98,-29.98 -190.02,29.98
3D body: height 70, standoff 0, extent -309.98,-29.98 -290.02,29.98
3D body: height 100, standoff 0, extent 210.02,-49.98 289.98,49.98
3D body: height 100, standoff 0, extent 110.02,-49.98 189.98,49.98
3D body: height 100, standoff 0, extent 10.02,-49.98 89.98,49.98
3D body: height 100, standoff 0, extent -89.96,-49.96 -10,50
3D body: height 100, standoff 0, extent -189.98,-49.98 -110.02,49.98
3D body: height 100, standoff 0, extent -289.98,-49.98 -210.02,49.98
3D body: height 100, standoff 0, extent 310.02,-49.98 399.98,49.98
3D body: height 100, standoff 0, extent -399.98,-49.98 -310.02,49.98

## 10 Pin Connector (Right Angle) [mil] "10 Pin,  0.1\" pitch, 90' Angle, Through Hole"
height 100
pads (10):
  round 70 hole 35: 1(-450,0) 2(-350,0) 3(-250,0) 4(-150,0) 5(-50,0) 6(50,0) 7(150,0) 8(250,0) 9(350,0) 10(450,0)
Top Overlay:
  drawing of 172 lines, arcs and shapes, not listed
3D body: height 75, standoff 0, extent 140,-10 160,10
3D body: height 75, standoff 0, extent 40,-10 60,10
3D body: height 75, standoff 50, extent 40,-390 60,10
3D body: height 75, standoff 50, extent 140,-390 160,10
3D body: height 70, standoff 15, extent 190.02,-129.98 209.98,-80.02
3D body: height 70, standoff 15, extent 90.02,-129.98 109.98,-80.02
3D body: height 100, standoff 0, extent 10.02,-159.98 89.98,-60.02
3D body: height 100, standoff 0, extent 110.02,-159.98 189.98,-60.02
3D body: height 75, standoff 0, extent -60,-10 -40,10
3D body: height 75, standoff 0, extent -160,-10 -140,10
3D body: height 75, standoff 50, extent -160,-390 -140,10
3D body: height 75, standoff 50, extent -60,-390 -40,10
3D body: height 70, standoff 15, extent -9.98,-129.98 9.98,-80.02
3D body: height 70, standoff 15, extent -109.98,-129.98 -90.02,-80.02
3D body: height 100, standoff 0, extent -189.98,-159.98 -110.02,-60.02
3D body: height 100, standoff 0, extent -89.98,-159.98 -10.02,-60.02
3D body: height 100, standoff 0, extent 410.02,-159.98 499.98,-60.02
3D body: height 100, standoff 0, extent -289.98,-159.98 -210.02,-60.02
3D body: height 100, standoff 0, extent -389.98,-159.98 -310.02,-60.02
3D body: height 100, standoff 0, extent -499.98,-159.98 -410.02,-60.02
3D body: height 70, standoff 15, extent -409.98,-129.98 -390.02,-80.02
3D body: height 70, standoff 15, extent -309.98,-129.98 -290.02,-80.02
3D body: height 70, standoff 15, extent -209.98,-129.98 -190.02,-80.02
3D body: height 75, standoff 50, extent 440,-390 460,10
3D body: height 75, standoff 50, extent -260,-390 -240,10
3D body: height 75, standoff 50, extent -360,-390 -340,10
3D body: height 75, standoff 50, extent -460,-390 -440,10
3D body: height 75, standoff 0, extent -460,-10 -440,10
3D body: height 75, standoff 0, extent -360,-10 -340,10
3D body: height 75, standoff 0, extent -260,-10 -240,10
3D body: height 75, standoff 0, extent 440,-10 460,10
3D body: height 100, standoff 0, extent 310.02,-159.98 389.98,-60.02
3D body: height 100, standoff 0, extent 210.02,-159.98 289.98,-60.02
3D body: height 70, standoff 15, extent 290.02,-129.98 309.98,-80.02
3D body: height 70, standoff 15, extent 390.02,-129.98 409.98,-80.02
3D body: height 75, standoff 50, extent 340,-390 360,10
3D body: height 75, standoff 50, extent 240,-390 260,10
3D body: height 75, standoff 0, extent 240,-10 260,10
3D body: height 75, standoff 0, extent 340,-10 360,10